# EAGLE library part 5530843-5 (library rpi64)
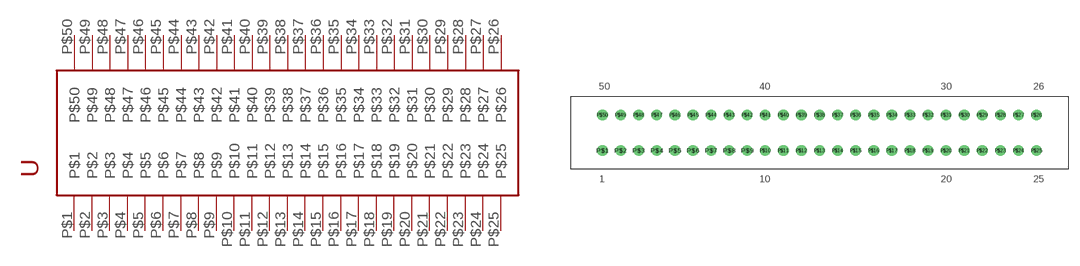
[diagram p0: symbol with the pads of 5530843-3; footprint 5530843-3]

Designator prefix -

## 5530843-5  [5530843-3]
P$1  P$1
P$2  P$2
P$3  P$3
P$4  P$4
P$5  P$5
P$6  P$6
P$7  P$7
P$8  P$8
P$9  P$9
P$10  P$10
P$11  P$11
P$12  P$12
P$13  P$13
P$14  P$14
P$15  P$15
P$16  P$16
P$17  P$17
P$18  P$18
P$19  P$19
P$20  P$20
P$21  P$21
P$22  P$22
P$23  P$23
P$24  P$24
P$25  P$25
P$26  P$26
P$27  P$27
P$28  P$28
P$29  P$29
P$30  P$30
P$31  P$31
P$32  P$32
P$33  P$33
P$34  P$34
P$35  P$35
P$36  P$36
P$37  P$37
P$38  P$38
P$39  P$39
P$40  P$40
P$41  P$41
P$42  P$42
P$43  P$43
P$44  P$44
P$45  P$45
P$46  P$46
P$47  P$47
P$48  P$48
P$49  P$49
P$50  P$50

## Footprint 5530843-3 (pad centres in mm)
drill 0.9 pad 1.5: P$1 4.51,-7.54; P$2 7.05,-7.54; P$3 9.59,-7.54; P$4 12.13,-7.54; P$5 14.67,-7.54; P$6 17.21,-7.54; P$7 19.75,-7.54; P$8 22.29,-7.54; P$9 24.83,-7.54; P$10 27.37,-7.54; P$11 29.91,-7.54; P$12 32.45,-7.54; P$13 34.99,-7.54; P$14 37.53,-7.54; P$15 40.07,-7.54; P$16 42.61,-7.54; P$17 45.15,-7.54; P$18 47.69,-7.54; P$19 50.23,-7.54; P$20 52.77,-7.54; P$21 55.31,-7.54; P$22 57.85,-7.54; P$23 60.39,-7.54; P$24 62.93,-7.54; P$25 65.47,-7.54; P$26 65.47,-2.54; P$27 62.93,-2.54; P$28 60.39,-2.54; P$29 57.85,-2.54; P$30 55.31,-2.54; P$31 52.77,-2.54; P$32 50.23,-2.54; P$33 47.69,-2.54; P$34 45.15,-2.54; P$35 42.61,-2.54; P$36 40.07,-2.54; P$37 37.53,-2.54; P$38 34.99,-2.54; P$39 32.45,-2.54; P$40 29.91,-2.54; P$41 27.37,-2.54; P$42 24.83,-2.54; P$43 22.29,-2.54; P$44 19.75,-2.54; P$45 17.21,-2.54; P$46 14.67,-2.54; P$47 12.13,-2.54; P$48 9.59,-2.54; P$49 7.05,-2.54; P$50 4.51,-2.54